# EAGLE library part LTC2451 (library Linear Technology)
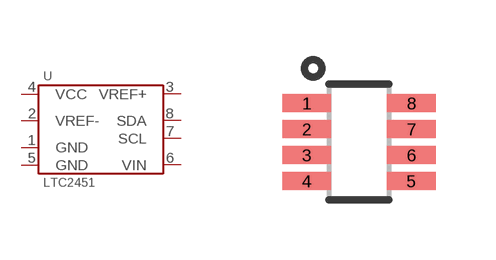
[diagram p0: symbol with the pads of TSOT-23-8; footprint TSOT-23-8]

Designator prefix U

## LTC2451CTS8#TRMPBF  [TSOT-23-8]
1  GND
2  VREF-
3  VREF+
4  VCC
5  GND
6  VIN
7  SCL
8  SDA

## Footprint TSOT-23-8 (pad centres in mm)
smd 1.22 x 0.45: 1 -1.31,0.975; 2 -1.31,0.325; 3 -1.31,-0.325; 4 -1.31,-0.975; 5 1.31,-0.975; 6 1.31,-0.325; 7 1.31,0.325; 8 1.31,0.975